# Altium footprint library HIROSE DF13A-6P-1.25H.PCBLIB: 1 footprints
Each footprint in its own frame and in the unit in brackets; x right, y up, seen from the top. Pads: shape width x height; smd on the part's side, far side on the other; paste and mask are expansions set on the pad; w line width, h text height; cw(c..) or ccw(c..) is an arc to the next point about the centre after c.
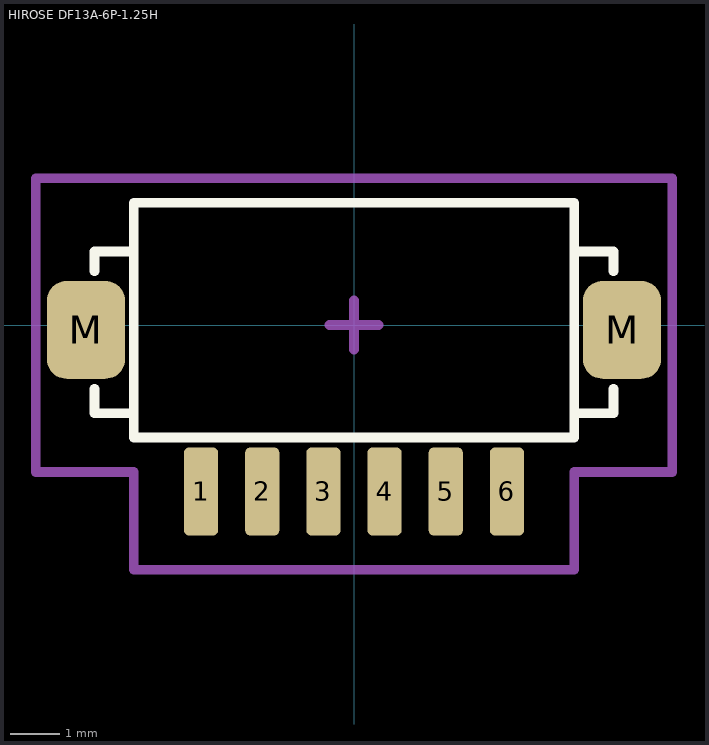
[diagram p0: the footprint, top view; thin cyan lines are the x and y axes]

## HIROSE DF13A-6P-1.25H [mm] "DF13 Series 1.25mm pitch miniature crimping connector single row"
height 3.6
pads (8):
  rrect30% 0.7x1.8 smd: 1(-3.125,-3.4) 2(-1.875,-3.4) 3(-0.625,-3.4) 4(0.625,-3.4) 5(1.875,-3.4) 6(3.125,-3.4)
  rrect50% 1.6x2 smd: M(-5.475,-0.1) M(5.475,-0.1)
Top Overlay:
  lines w0.2: -5.3,-1.3 -5.3,-1.8 -4.9,-1.8 -4.5,-1.8 ; -5.3,1.1 -5.3,1.5 -4.5,1.5 ; 4.5,-1.8 4.9,-1.8 5.3,-1.8 5.3,-1.3 ; 4.5,1.5 5.3,1.5 5.3,1.1 ; -4.5,-2.3 -4.5,-1.3 -4.5,2.5 -2.5,2.5 3.25,2.5 4.5,2.5 4.5,-1.3 4.5,-2.3 3.5,-2.3 1.8,-2.3 -1.875,-2.3 -2.5,-2.3 -3.5,-2.3 -4.5,-2.3
Mechanical 15:
  lines w0.2: -0.5,0 0.5,0 ; 0,-0.5 0,0.5 ; -6.5,-3 -6.5,2.5 -6.5,3 -2.5,3 5.25,3 6.5,3 6.5,2.5 6.5,-3 4.5,-3 4.5,-5 -2.5,-5 -4.5,-5 -4.5,-3 -6.5,-3
3D body "DF13A-6P-1.25H_X_8A_S_H_X_97_S__.STEP": height 3.59, standoff -0.01, extent -6.075,-3.9 6.075,2.6